# Altium footprint library PCB_proj_module_1_1.PcbLib: 60 footprints (part 1 of 4)
Each footprint in its own frame and in the unit in brackets; x right, y up, seen from the top. Pads: shape width x height; smd on the part's side, far side on the other; paste and mask are expansions set on the pad; w line width, h text height; cw(c..) or ccw(c..) is an arc to the next point about the centre after c.
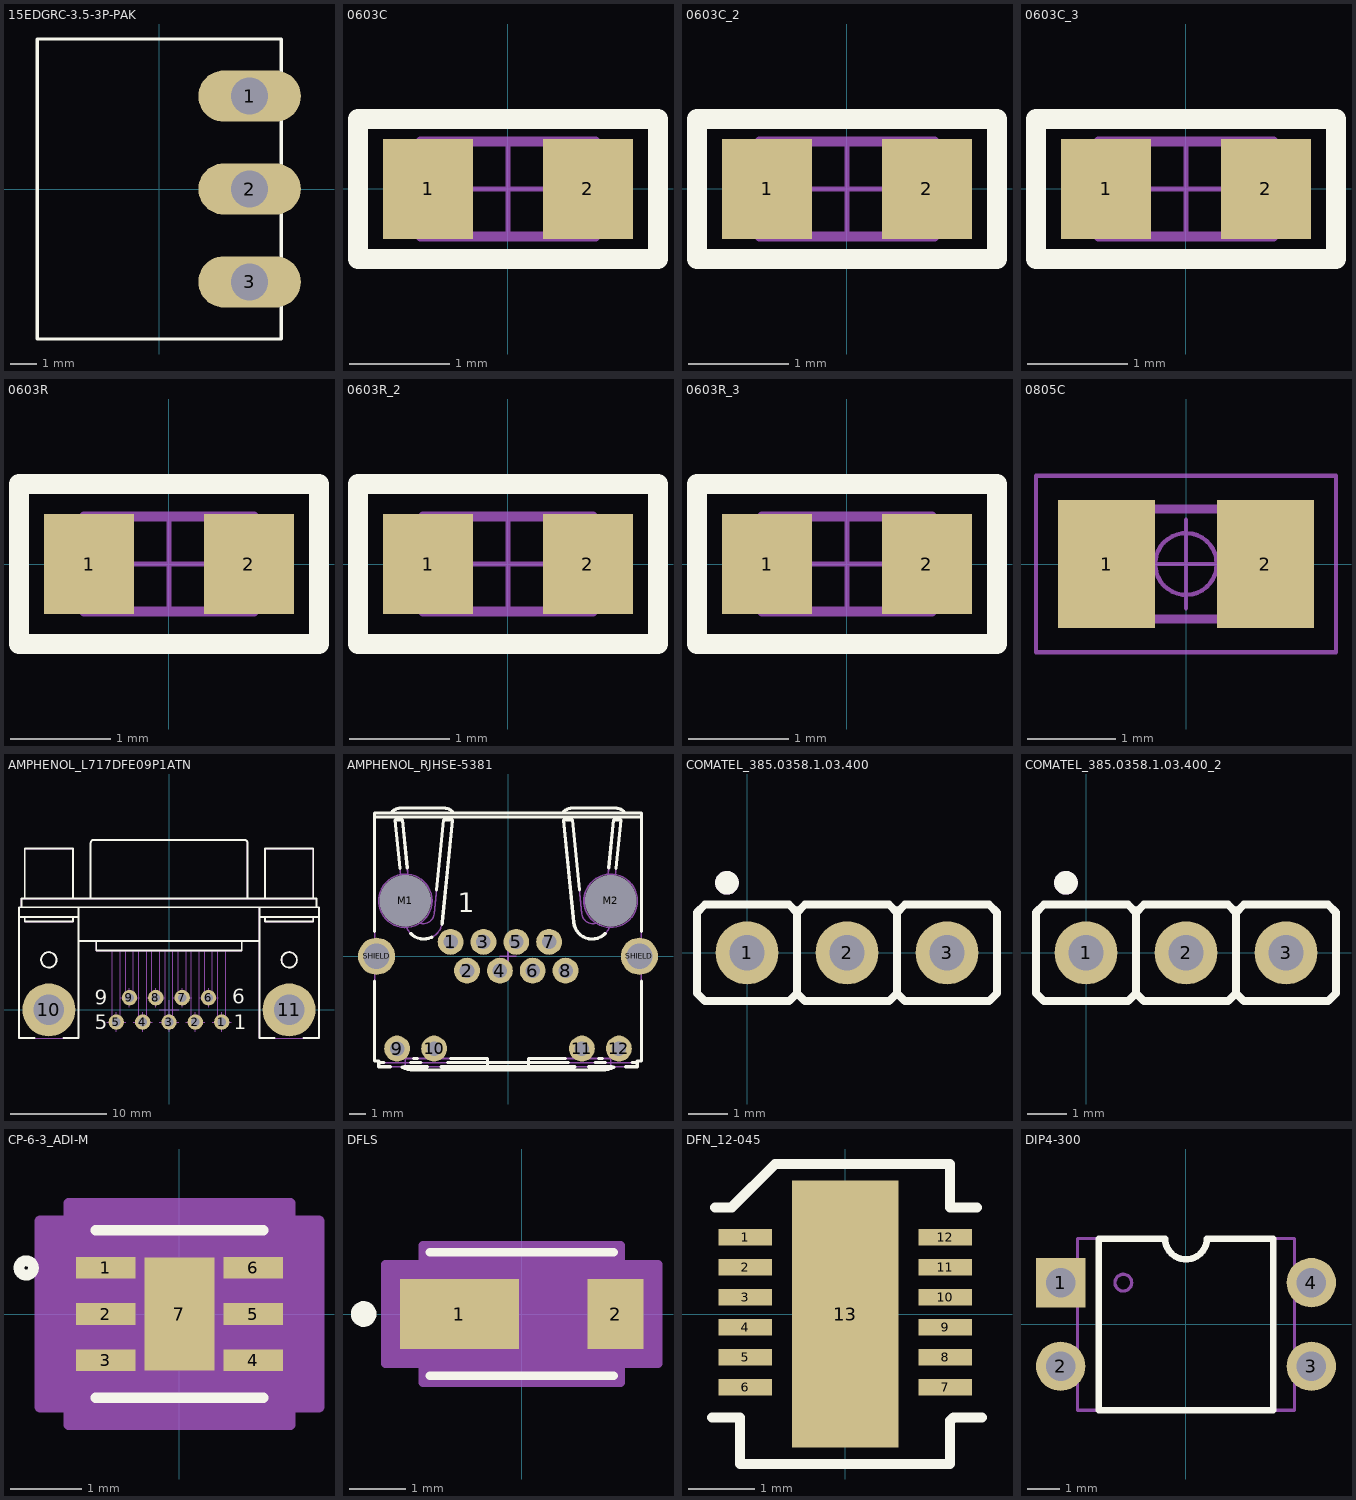
[diagram p0: the footprints below, top view; thin cyan lines are the x and y axes]

## 15EDGRC-3.5-3P-PAK [mm]
pads (3):
  oval 3.861x1.93 hole 1.4: 1(3.4,3.5) 2(3.4,0) 3(3.4,-3.5)
Top Overlay:
  lines w0.127: -4.6,-5.65 4.6,-5.65 4.6,5.65 -4.6,5.65 -4.6,-5.65
3D body "15EDGRC-3.5_3P--3DModel-STEP-510211.STEP": height 7.24, standoff -3.4, extent -4.6,-5.65 4.6,5.65

## 0603C [mm]
height 0.5
pads (2):
  rect 0.9x1 smd: 1(-0.8,0) 2(0.8,0)
Top Overlay:
  lines w0.2: -1.5,-0.7 1.5,-0.7 1.5,0.7 -1.5,0.7 -1.5,-0.7
Mechanical 13:
  lines w0.1: -0.875,-0.475 0.875,-0.475 0.875,0.475 -0.875,0.475 -0.875,-0.475
Mechanical 15:
  lines w0.05: -0.475,0 0.475,0 ; 0,-0.475 0,0.475 ; -1.5,-0.75 1.5,-0.75 1.5,0.75 -1.5,0.75 -1.5,-0.75
3D body: height 1, standoff 0, extent 0.525,-0.475 0.875,0.475
3D body: height 1, standoff 0, extent -0.875,-0.475 -0.525,0.475
3D body: height 1, standoff 0, extent -0.525,-0.475 0.525,0.475

## 0603C_2 [mm]
pads (2):
  rect 0.9x1 smd: 1(-0.8,0) 2(0.8,0)
Top Overlay:
  lines w0.2: -1.5,-0.7 -1.5,0.7 1.5,0.7 1.5,-0.7 -1.5,-0.7
Mechanical 13:
  lines w0.1: -0.875,-0.475 -0.875,0.475 0.875,0.475 0.875,-0.475 -0.875,-0.475
Mechanical 15:
  lines w0.05: -0.475,0 0.475,0 ; 0,-0.475 0,0.475 ; -1.5,-0.75 -1.5,0.75 1.5,0.75 1.5,-0.75 -1.5,-0.75
3D body: height 1, standoff 0, extent -0.525,-0.475 0.525,0.475
3D body: height 1, standoff 0, extent -0.875,-0.475 -0.525,0.475
3D body: height 1, standoff 0, extent 0.525,-0.475 0.875,0.475

## 0603C_3 [mm]
pads (2):
  rect 0.9x1 smd: 1(-0.8,0) 2(0.8,0)
Top Overlay:
  lines w0.2: -1.5,-0.7 1.5,-0.7 1.5,0.7 -1.5,0.7 -1.5,-0.7
Mechanical 13:
  lines w0.1: -0.875,-0.475 0.875,-0.475 0.875,0.475 -0.875,0.475 -0.875,-0.475
Mechanical 15:
  lines w0.05: -0.475,0 0.475,0 ; 0,-0.475 0,0.475 ; -1.5,-0.75 1.5,-0.75 1.5,0.75 -1.5,0.75 -1.5,-0.75
3D body: height 1, standoff 0, extent 0.525,-0.475 0.875,0.475
3D body: height 1, standoff 0, extent -0.875,-0.475 -0.525,0.475
3D body: height 1, standoff 0, extent -0.525,-0.475 0.525,0.475

## 0603R [mm]
height 0.5
pads (2):
  rect 0.9x1 smd: 1(-0.8,0) 2(0.8,0)
Top Overlay:
  lines w0.2: -1.5,-0.8 -1.5,0.8 1.5,0.8 1.5,-0.8 -1.5,-0.8
Mechanical 14:
  lines w0.1: -0.85,-0.475 -0.85,0.475 0.85,0.475 0.85,-0.475 -0.85,-0.475
Mechanical 15:
  lines w0.05: -0.475,0 0.475,0 ; 0,-0.475 0,0.475 ; -1.5,-0.75 -1.5,0.75 1.5,0.75 1.5,-0.75 -1.5,-0.75
3D body: height 0.6, standoff 0, extent 0.581,-0.474 0.85,0.475
3D body: height 0.6, standoff 0, extent -0.58,-0.474 0.581,0.475
3D body: height 0.6, standoff 0, extent -0.849,-0.474 -0.58,0.475

## 0603R_2 [mm]
pads (2):
  rect 0.9x1 smd: 1(-0.8,0) 2(0.8,0)
Top Overlay:
  lines w0.2: -1.5,-0.8 -1.5,0.8 1.5,0.8 1.5,-0.8 -1.5,-0.8
Mechanical 14:
  lines w0.1: -0.85,-0.475 -0.85,0.475 0.85,0.475 0.85,-0.475 -0.85,-0.475
Mechanical 15:
  lines w0.05: -0.475,0 0.475,0 ; 0,-0.475 0,0.475 ; -1.5,-0.75 -1.5,0.75 1.5,0.75 1.5,-0.75 -1.5,-0.75
3D body: height 0.6, standoff 0, extent 0.581,-0.474 0.85,0.475
3D body: height 0.6, standoff 0, extent -0.58,-0.474 0.581,0.475
3D body: height 0.6, standoff 0, extent -0.849,-0.474 -0.58,0.475

## 0603R_3 [mm]
pads (2):
  rect 0.9x1 smd: 1(-0.8,0) 2(0.8,0)
Top Overlay:
  lines w0.2: -1.5,-0.8 -1.5,0.8 1.5,0.8 1.5,-0.8 -1.5,-0.8
Mechanical 14:
  lines w0.1: -0.85,-0.475 0.85,-0.475 0.85,0.475 -0.85,0.475 -0.85,-0.475
Mechanical 15:
  lines w0.05: -0.475,0 0.475,0 ; 0,-0.475 0,0.475 ; -1.5,-0.75 -1.5,0.75 1.5,0.75 1.5,-0.75 -1.5,-0.75
3D body: height 0.6, standoff 0, extent 0.581,-0.474 0.85,0.475
3D body: height 0.6, standoff 0, extent -0.58,-0.474 0.581,0.475
3D body: height 0.6, standoff 0, extent -0.849,-0.474 -0.58,0.475

## 0805C [mm] "Chip Capacitor, Body 2.0x1.25mm, IPC Medium Density"
height 0.9
pads (2):
  rect 1.1x1.45 smd: 1(-0.9,0) 2(0.9,0)
Mechanical 14:
  lines w0.1: -1,-0.625 -1,0.625 1,0.625 1,-0.625 -1,-0.625
Mechanical 15:
  circle w0.05: c0,0 r0.35
  lines w0.05: -0.5,0 0.5,0 ; 0,-0.5 0,0.5 ; -1.7,-1 -1.7,1 1.7,1 1.7,-1 -1.7,-1
3D body "CAPC2012X90N.stp": height 0.9, standoff 0, extent -1.05,-0.675 1.05,0.675

## AMPHENOL_L717DFE09P1ATN [mm] "Right Angled D-Sub 9 Male Contacts with Metal Bracket and Front Female Screwlock (UNC4-40)"
height 13.4
pads (11):
  round 1.6 hole 0.9: 1(5.48,-1.27) 2(2.74,-1.27) 3(0,-1.27) 4(-2.74,-1.27) 5(-5.48,-1.27) 6(4.11,1.27) 7(1.37,1.27) 8(-1.37,1.27) 9(-4.11,1.27)
  round 5.5 hole 3.2: 10(-12.495,0) 11(12.495,0)
Top Overlay:
  circle w0.2: c12.5,5.2 r0.8
  circle w0.2: c-12.5,5.2 r0.8
  lines w0.2: -15.35,10.67 -15.35,11.57 15.35,11.57 15.35,10.67 ; -15,9.67 -15,9.17 -10,9.17 -10,9.67 ; -15,11.57 -15,16.77 -10,16.77 -10,11.57 ; -14,-2.93 -15.6,-2.93 -15.6,10.67 15.6,10.67 15.6,-2.93 14,-2.93 ; -11,-2.93 -9.4,-2.93 -9.4,10.67 ; -9.539,9.67 -15.6,9.67 -9.4,9.67 ; -9.4,7.17 9.4,7.17 ; -8.142,11.57 -8.142,17.37 cw(c-7.842,17.37) -7.842,17.67 7.861,17.67 cw(c7.861,17.37) 8.161,17.37 8.161,11.57 ; -7.57,7.17 -7.57,6.17 7.57,6.17 7.57,7.17 ; 9.4,9.67 15.6,9.67 ; 9.4,10.67 9.4,-2.93 11,-2.93 ; 10,9.67 10,9.17 15,9.17 15,9.67 ; 10,11.57 10,16.77 15,16.77 15,11.57
  text "9" at -7.747,0.508 h1.5
  text "1" at 6.731,-2.032 h1.5
  text "5" at -7.747,-2.032 h1.5
  text "6" at 6.604,0.635 h1.5
Mechanical 8:
  lines w0.1: -13.5,0 -12.5,0 ; -12.5,-1 -12.5,0 ; -12.5,1 -12.5,0 ; -11.5,0 -12.5,0 ; -6.48,-1.27 -5.48,-1.27 ; -5.48,-2.27 -5.48,-1.27 ; -5.48,-0.27 -5.48,-1.27 ; -5.11,1.27 -4.11,1.27 ; -4.48,-1.27 -5.48,-1.27 ; -4.11,0.27 -4.11,1.27 ; -4.11,2.27 -4.11,1.27 ; -3.74,-1.27 -2.74,-1.27 ; -3.11,1.27 -4.11,1.27 ; -2.74,-2.27 -2.74,-1.27 ; -2.74,-0.27 -2.74,-1.27 ; -2.37,1.27 -1.37,1.27 ; -1.74,-1.27 -2.74,-1.27 ; -1.37,0.27 -1.37,1.27 ; -1.37,2.27 -1.37,1.27 ; -1,-1.27 0,-1.27 ; -1,0 0,0 ; -0.37,1.27 -1.37,1.27 ; 0,-2.27 0,-1.27 ; 0,-1 0,0 ; 0,-0.27 0,-1.27 ; 0,1 0,0 ; 0.37,1.27 1.37,1.27 ; 1,-1.27 0,-1.27 ; 1,0 0,0 ; 1.37,0.27 1.37,1.27 ; 1.37,2.27 1.37,1.27 ; 1.74,-1.27 2.74,-1.27 ; 2.37,1.27 1.37,1.27 ; 2.74,-2.27 2.74,-1.27 ; 2.74,-0.27 2.74,-1.27 ; 3.11,1.27 4.11,1.27 ; 3.74,-1.27 2.74,-1.27 ; 4.11,0.27 4.11,1.27 ; 4.11,2.27 4.11,1.27 ; 4.48,-1.27 5.48,-1.27 ; 5.11,1.27 4.11,1.27 ; 5.48,-2.27 5.48,-1.27 ; 5.48,-0.27 5.48,-1.27 ; 6.48,-1.27 5.48,-1.27 ; 11.5,0 12.5,0 ; 12.5,-1 12.5,0 ; 12.5,1 12.5,0 ; 13.5,0 12.5,0
Mechanical 14:
  circle w0.1: c12.5,0 r1.6
  circle w0.1: c12.5,5.2 r0.8
  circle w0.1: c-12.5,5.2 r0.8
  circle w0.1: c-12.5,0 r1.6
  lines w0.1: -15.35,10.67 -15.35,11.57 15.35,11.57 15.35,10.67 ; -15,9.67 -15,9.17 -10,9.17 -10,9.67 ; -15,11.57 -15,16.77 -10,16.77 -10,11.57 ; -9.539,9.67 -15.6,9.67 -9.4,9.67 ; -9.4,7.17 9.4,7.17 ; -9.4,10.67 -9.4,-2.93 -15.6,-2.93 -15.6,10.67 15.6,10.67 15.6,-2.93 9.4,-2.93 9.4,10.67 ; -8.142,11.57 -8.142,17.37 cw(c-7.842,17.37) -7.842,17.67 7.861,17.67 cw(c7.861,17.37) 8.161,17.37 8.161,11.57 ; -7.57,7.17 -7.57,6.17 7.57,6.17 7.57,7.17 ; -5.88,6.17 -5.88,-1.27 ccw(c-5.48,-1.27) -5.08,-1.27 -5.08,6.17 ; -4.51,6.17 -4.51,1.27 ccw(c-4.11,1.27) -3.71,1.27 -3.71,6.17 ; -3.14,6.17 -3.14,-1.27 ccw(c-2.74,-1.27) -2.34,-1.27 -2.34,6.17 ; -1.77,6.17 -1.77,1.27 ccw(c-1.37,1.27) -0.97,1.27 -0.97,6.17 ; -0.4,6.17 -0.4,-1.27 ccw(c0,-1.27) 0.4,-1.27 0.4,6.17 ; 0.97,6.17 0.97,1.27 ccw(c1.37,1.27) 1.77,1.27 1.77,6.17 ; 2.34,6.17 2.34,-1.27 ccw(c2.74,-1.27) 3.14,-1.27 3.14,6.17 ; 3.71,6.17 3.71,1.27 ccw(c4.11,1.27) 4.51,1.27 4.51,6.17 ; 5.08,6.17 5.08,-1.27 ccw(c5.48,-1.27) 5.88,-1.27 5.88,6.17 ; 9.4,9.67 15.6,9.67 ; 10,9.67 10,9.17 15,9.17 15,9.67 ; 10,11.57 10,16.77 15,16.77 15,11.57
3D body "AMPHENOL_L717DFE09P1ATN.stp": height 13.45, standoff -3.95, extent -15.6,-2.93 15.6,17.67

## AMPHENOL_RJHSE-5381 [mm] "1 Port, 8 Positions, CAT5 RJ45 Modular Connector With Yellow And Green LEDs"
height 13.46
pads (16):
  round 1.6 hole 0.9: 1(-3.554,0.886) 2(-2.538,-0.894) 3(-1.522,0.886) 4(-0.506,-0.894) 5(0.51,0.886) 6(1.526,-0.894) 7(2.542,0.886) 8(3.558,-0.894) 9(-6.862,-5.714) 10(-4.572,-5.714) 11(4.568,-5.714) 12(6.858,-5.714)
  round 1 hole 3.2 unplated mask+1.1: M1(-6.352,3.426) M2(6.348,3.426)
  round 2.3 hole 1.6: SHIELD(-8.132,-0.004) SHIELD(8.128,-0.004)
Top Overlay:
  lines w0.2: -8.257,-1.549 -8.257,-6.478 -8.003,-6.478 -8.003,-6.834 -7.293,-6.834 ; -8.257,1.541 -8.257,8.863 8.253,8.863 8.253,1.541 ; -8.257,8.609 8.253,8.609 ; -8.003,-6.58 -7.693,-6.58 ; -7.242,8.863 cw(c-6.621,8.379) -6.621,9.166 -3.979,9.166 cw(c-3.979,8.379) -3.358,8.863 ; -6.688,5.449 -6.987,8.432 -6.53,8.432 -6.233,5.473 ; -6.54,-6.87 ccw(c-5.844,-5.507) -5.844,-7.037 5.84,-7.037 ccw(c5.84,-5.507) 6.536,-6.87 ; -6.431,-6.834 -5.003,-6.834 ; -6.031,-6.58 -5.403,-6.58 ; -6.022,1.403 ccw(c-5.209,2.214) -4.719,1.176 ; -5.83,-6.326 -5.604,-6.326 ; -4.422,4.118 -3.99,8.432 -3.431,8.432 -4.066,2.1 cw(c-5.209,2.214) -4.089,1.961 ; -4.141,-6.834 4.137,-6.834 ; -3.741,-6.58 3.737,-6.58 ; -3.54,-6.326 -1.272,-6.326 -1.272,-6.834 ; 1.268,-6.834 1.268,-6.326 3.536,-6.326 ; 3.366,8.863 cw(c3.986,8.379) 3.986,9.166 6.628,9.166 cw(c6.628,8.379) 7.249,8.863 ; 4.418,4.118 3.986,8.432 3.427,8.432 4.062,2.1 ccw(c5.205,2.214) 6.018,1.403 ; 4.999,-6.834 6.427,-6.834 ; 5.399,-6.58 6.027,-6.58 ; 5.6,-6.326 5.826,-6.326 ; 6.229,5.473 6.526,8.432 6.983,8.432 6.684,5.449 ; 7.289,-6.834 7.999,-6.834 7.999,-6.478 8.253,-6.478 8.253,-1.549 ; 7.689,-6.58 7.999,-6.58
  text "1" at -3.12,2.725 h1.2
Mechanical 8:
  circle w0.1: c2.542,0.886 r0.45
  circle w0.1: c0.51,0.886 r0.45
  circle w0.1: c-1.522,0.886 r0.45
  circle w0.1: c-3.554,0.886 r0.45
  circle w0.1: c-2.538,-0.894 r0.45
  circle w0.1: c-0.506,-0.894 r0.45
  circle w0.1: c1.526,-0.894 r0.45
  circle w0.1: c3.558,-0.894 r0.45
  circle w0.1: c-8.132,-0.004 r0.8
  circle w0.1: c8.128,-0.004 r0.8
  circle w0.1: c-6.352,3.426 r1.65
  circle w0.1: c6.348,3.426 r1.65
  lines w0.1: -8.632,-0.004 -8.132,-0.004 ; -8.132,-0.504 -8.132,-0.004 ; -8.132,0.496 -8.132,-0.004 ; -7.632,-0.004 -8.132,-0.004 ; -7.362,-5.714 -6.862,-5.714 ; -6.862,-6.214 -6.862,-5.714 ; -6.862,-5.214 -6.862,-5.714 ; -6.852,3.426 -6.352,3.426 ; -6.362,-5.714 -6.862,-5.714 ; -6.352,2.926 -6.352,3.426 ; -6.352,3.926 -6.352,3.426 ; -5.852,3.426 -6.352,3.426 ; -5.072,-5.714 -4.572,-5.714 ; -4.572,-6.214 -4.572,-5.714 ; -4.572,-5.214 -4.572,-5.714 ; -4.072,-5.714 -4.572,-5.714 ; -4.054,0.886 -3.554,0.886 ; -3.554,0.386 -3.554,0.886 ; -3.554,1.386 -3.554,0.886 ; -3.054,0.886 -3.554,0.886 ; -3.038,-0.894 -2.538,-0.894 ; -2.538,-1.394 -2.538,-0.894 ; -2.538,-0.394 -2.538,-0.894 ; -2.038,-0.894 -2.538,-0.894 ; -2.022,0.886 -1.522,0.886 ; -1.522,0.386 -1.522,0.886 ; -1.522,1.386 -1.522,0.886 ; -1.022,0.886 -1.522,0.886 ; -1.006,-0.894 -0.506,-0.894 ; -0.506,-1.394 -0.506,-0.894 ; -0.506,-0.394 -0.506,-0.894 ; -0.5,0 0,0 ; -0.006,-0.894 -0.506,-0.894 ; 0,-0.5 0,0 ; 0,0.5 0,0 ; 0.01,0.886 0.51,0.886 ; 0.5,0 0,0 ; 0.51,0.386 0.51,0.886 ; 0.51,1.386 0.51,0.886 ; 1.01,0.886 0.51,0.886 ; 1.026,-0.894 1.526,-0.894 ; 1.526,-1.394 1.526,-0.894 ; 1.526,-0.394 1.526,-0.894 ; 2.026,-0.894 1.526,-0.894 ; 2.042,0.886 2.542,0.886 ; 2.542,0.386 2.542,0.886 ; 2.542,1.386 2.542,0.886 ; 3.042,0.886 2.542,0.886 ; 3.058,-0.894 3.558,-0.894 ; 3.558,-1.394 3.558,-0.894 ; 3.558,-0.394 3.558,-0.894 ; 4.058,-0.894 3.558,-0.894 ; 4.068,-5.714 4.568,-5.714 ; 4.568,-6.214 4.568,-5.714 ; 4.568,-5.214 4.568,-5.714 ; 5.068,-5.714 4.568,-5.714 ; 5.848,3.426 6.348,3.426 ; 6.348,2.926 6.348,3.426 ; 6.348,3.926 6.348,3.426 ; 6.358,-5.714 6.858,-5.714 ; 6.848,3.426 6.348,3.426 ; 6.858,-6.214 6.858,-5.714 ; 6.858,-5.214 6.858,-5.714 ; 7.358,-5.714 6.858,-5.714 ; 7.628,-0.004 8.128,-0.004 ; 8.128,-0.504 8.128,-0.004 ; 8.128,0.496 8.128,-0.004 ; 8.628,-0.004 8.128,-0.004
Mechanical 14:
  lines w0.1: -8.257,-0.408 cw(c-7.884,-0.027) -8.257,0.354 ; -8.257,8.609 8.253,8.609 ; -8.003,-6.58 7.999,-6.58 ; -7.242,8.863 cw(c-6.621,8.379) -6.621,9.166 -3.979,9.166 cw(c-3.979,8.379) -3.358,8.863 ; -6.606,-6.834 ccw(c-5.844,-5.507) -5.844,-7.037 5.84,-7.037 ccw(c5.84,-5.507) 6.602,-6.834 ; -6.352,-6.834 -6.352,-6.326 -1.272,-6.326 -1.272,-6.834 ; 1.268,-6.834 1.268,-6.326 6.348,-6.326 6.348,-6.834 ; 3.366,8.863 cw(c3.986,8.379) 3.986,9.166 6.628,9.166 cw(c6.628,8.379) 7.249,8.863 ; 8.253,-0.408 ccw(c7.88,-0.027) 8.253,0.354 ; -8.257,-6.478 -8.257,8.863 8.253,8.863 8.253,-6.478 7.999,-6.478 7.999,-6.834 -8.003,-6.834 -8.003,-6.478 -8.257,-6.478 ; -6.987,8.432 -6.53,8.432 -5.948,2.63 ccw(c-5.26,2.697) -4.572,2.63 -3.99,8.432 -3.431,8.432 -4.066,2.1 cw(c-5.209,2.214) -6.352,2.1 -6.987,8.432 ; 3.427,8.432 3.986,8.432 4.568,2.63 ccw(c5.256,2.697) 5.944,2.63 6.526,8.432 6.983,8.432 6.348,2.1 cw(c5.205,2.214) 4.062,2.1 3.427,8.432
  text "1" at -3.12,2.725 h1.2
3D body "AMPHENOL_RJHSE-5381.stp": height 15.14, standoff -3.7, extent -8.417,-7.037 8.413,9.166

## COMATEL_385.0358.1.03.400 [mm] "3 Contacts Straight Strip Header Pitch 2.54mm L=6.3mm ''Mini-Wire-Wrap''"
height 8
pads (3):
  round 1.6 hole 0.9: 1(0,0) 2(2.54,0) 3(5.08,0)
Top Overlay:
  circle w0.3: c-0.508,1.778 r0.15
  lines w0.2: -1.27,1.025 -1.07,1.225 ; -1.27,1.025 -1.27,-1.025 -1.07,-1.225 1.07,-1.225 1.27,-1.025 ; -1.27,1.025 -1.07,1.225 ; -1.07,1.225 1.07,1.225 1.27,1.025 ; 1.27,-1.025 1.27,1.025 ; 1.27,-1.025 1.47,-1.225 3.61,-1.225 3.81,-1.025 ; 1.27,1.025 1.47,1.225 3.61,1.225 3.81,1.025 ; 3.81,-1.025 3.81,1.025 ; 3.81,-1.025 4.01,-1.225 6.15,-1.225 6.35,-1.025 6.35,1.025 6.15,1.225 4.01,1.225 3.81,1.025
Mechanical 14:
  circle w0.3: c-0.508,1.778 r0.15
  lines w0.1: 1.27,-1.025 1.07,-1.225 -1.07,-1.225 -1.27,-1.025 -1.27,1.025 -1.07,1.225 1.07,1.225 1.27,1.025 ; 1.27,-1.025 1.27,1.025 ; 1.27,-1.025 1.47,-1.225 3.61,-1.225 3.81,-1.025 ; 1.27,1.025 1.47,1.225 3.61,1.225 3.81,1.025 ; 3.81,-1.025 3.81,1.025 ; 3.81,-1.025 4.01,-1.225 6.15,-1.225 6.35,-1.025 6.35,1.025 6.15,1.225 4.01,1.225 3.81,1.025
3D body "COMATEL_385.0358.1.03.400.stp": height 8, standoff -3.2, extent -1.27,-1.225 6.35,1.225

## COMATEL_385.0358.1.03.400_2 [mm]
pads (3):
  round 1.6 hole 0.9: 1(0,0) 2(2.54,0) 3(5.08,0)
Top Overlay:
  circle w0.3: c-0.508,1.778 r0.15
  lines w0.2: -1.27,1.025 -1.07,1.225 ; -1.27,1.025 -1.27,-1.025 -1.07,-1.225 1.07,-1.225 1.27,-1.025 ; -1.27,1.025 -1.07,1.225 ; -1.07,1.225 1.07,1.225 1.27,1.025 ; 1.27,-1.025 1.27,1.025 ; 1.27,-1.025 1.47,-1.225 3.61,-1.225 3.81,-1.025 ; 1.27,1.025 1.47,1.225 3.61,1.225 3.81,1.025 ; 3.81,-1.025 3.81,1.025 ; 3.81,-1.025 4.01,-1.225 6.15,-1.225 6.35,-1.025 6.35,1.025 6.15,1.225 4.01,1.225 3.81,1.025
Mechanical 14:
  circle w0.3: c-0.508,1.778 r0.15
  lines w0.1: 1.27,-1.025 1.07,-1.225 -1.07,-1.225 -1.27,-1.025 -1.27,1.025 -1.07,1.225 1.07,1.225 1.27,1.025 ; 1.27,-1.025 1.27,1.025 ; 1.27,-1.025 1.47,-1.225 3.61,-1.225 3.81,-1.025 ; 1.27,1.025 1.47,1.225 3.61,1.225 3.81,1.025 ; 3.81,-1.025 3.81,1.025 ; 3.81,-1.025 4.01,-1.225 6.15,-1.225 6.35,-1.025 6.35,1.025 6.15,1.225 4.01,1.225 3.81,1.025
3D body "COMATEL_385.0358.1.03.400.stp": height 8, standoff -3.2, extent -1.27,-1.225 6.35,1.225

## CP-6-3_ADI-M [mil]
height 130.31
pads (7):
  rect 33x12 smd paste+0 mask+0: 1(-41,25.59) 2(-41,0) 3(-41,-25.59) 4(41,-25.59) 5(41,0) 6(41,25.59)
  rect 39x63 smd paste+0 mask+0: 7(0,0)
Top Overlay:
  circle w6: c-85.09,25.59 r4
  lines w6: -46.5,-46.5 46.5,-46.5 ; -46.5,46.5 46.5,46.5
Mechanical 14:
  circle w0: c-24.5,25.59 r3
  lines w0: -12,41.5 ccw(c0,41.5) 12,41.5
  lines w1: -41.5,-41.5 41.5,-41.5 41.5,41.5 -41.5,41.5 -41.5,-41.5
Mechanical 15:
  region: -61.5,-51.59 -77.5,-51.59 -77.5,51.59 -61.5,51.59 -61.5,61.5 61.5,61.5 61.5,51.59 77.5,51.59 77.5,-51.59 61.5,-51.59 61.5,-61.5 -61.5,-61.5
  lines w6: -77.5,-51.59 -61.5,-51.59 -61.5,-61.5 61.5,-61.5 61.5,-51.59 77.5,-51.59 77.5,51.59 61.5,51.59 61.5,61.5 -61.5,61.5 -61.5,51.59 -77.5,51.59 -77.5,-51.59
3D body "CP-6-3_ADI.step": height 24.09, standoff 0, extent -41.49,-41.49 41.5,41.5

## DFLS [mil]
pads (2):
  rect 83x49 smd paste+0 mask+0: 1(-43.5,0)
  rect 39x49 smd paste+0 mask+0: 2(65.5,0)
Top Overlay:
  circle w10: c-110.24,0 r3.94
  lines w6: -64,-43 64,-43 ; -64,43 64,43
Mechanical 14:
  lines w1: -59,-19 -40,-38 ; -59,19 -40,38 ; -77,-24.5 -59,-24.5 -59,24.5 -77,24.5 -77,-24.5 ; -59,-38 -59,38 59,38 59,-38 -59,-38 ; 59,-24.5 77,-24.5 77,24.5 59,24.5 59,-24.5
  text "*" at -61.5,-25 h50
Mechanical 15:
  region: -69,-34.5 -95,-34.5 -95,34.5 -69,34.5 -69,48 69,48 69,34.5 95,34.5 95,-34.5 69,-34.5 69,-48 -69,-48
  lines w6: -95,-34.5 -95,34.5 -69,34.5 -69,48 69,48 69,34.5 95,34.5 95,-34.5 69,-34.5 69,-48 -69,-48 -69,-34.5 -95,-34.5
3D body "POWERDI123_DIO.step": height 32.09, standoff 0, extent -77,-37.99 77.01,38

## DFN_12-045 [mm] "0.45mm pitch 12pin"
height 0.75
pads (13):
  rect 0.8x0.25 smd: 1(-1.5,1.15) 2(-1.5,0.7) 3(-1.5,0.25) 4(-1.5,-0.2) 5(-1.5,-0.65) 6(-1.5,-1.1) 7(1.5,-1.1) 8(1.5,-0.65) 9(1.5,-0.2) 10(1.5,0.25) 11(1.5,0.7) 12(1.5,1.15)
  rect 1.6x4 smd: 13(0,0)
Top Overlay:
  lines w0.15: -2,-1.55 -1.575,-1.55 -1.575,-2.25 1.575,-2.25 1.575,-1.6 1.625,-1.55 1.8,-1.55 2.055,-1.55 ; -1.95,1.6 -1.7,1.6 -1.05,2.25 1.575,2.25 1.575,1.6 1.975,1.6
3D body: height 0.75, standoff 0, extent -1.5,-1.475 1.5,1.525

## DIP4-300 [mm] "DIP 4 Leads, Row Spacing 7.62 mm; Pitch 2.54 mm"
height 5.08
pads (4):
  rect 1.5x1.5 hole 0.9: 1(-3.81,1.27)
  round 1.5 hole 0.9: 2(-3.81,-1.27) 3(3.81,-1.27) 4(3.81,1.27)
Top Overlay:
  lines w0.2: -0.635,2.61 ccw(c0,2.61) 0.635,2.61 ; -0.635,2.61 ccw(c0,2.61) 0.635,2.61 ; -0.635,2.61 -2.65,2.61 -2.65,-2.61 2.65,-2.61 2.65,2.61 0.635,2.61
Mechanical 14:
  circle w0.1: c-1.905,1.27 r0.254
  lines w0.1: -3.3,-2.61 -3.3,2.61 -0.635,2.61 ccw(c0,2.61) 0.635,2.61 3.3,2.61 3.3,-2.61 -3.3,-2.61
3D body "DIP4-300.stp": height 5.33, standoff -3.3, extent -3.935,-2.54 3.935,2.54